# Altium schematic symbol library OLED12864I2C.SchLib: 1 symbol
Pins are listed as number, name and electrical type; pins without a type are passive.

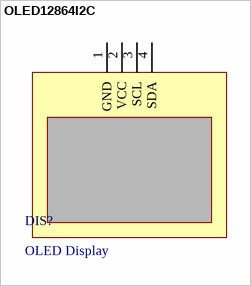
[diagram p0: symbol OLED12864I2C]

## OLED12864I2C
designator DIS?, comment OLED Display
footprint OLED12864I2C
pins: 1 GND, 2 VCC, 3 SCL, 4 SDA